# EAGLE library part 6N138 (library Master)
Optoisolator, darlington pair output
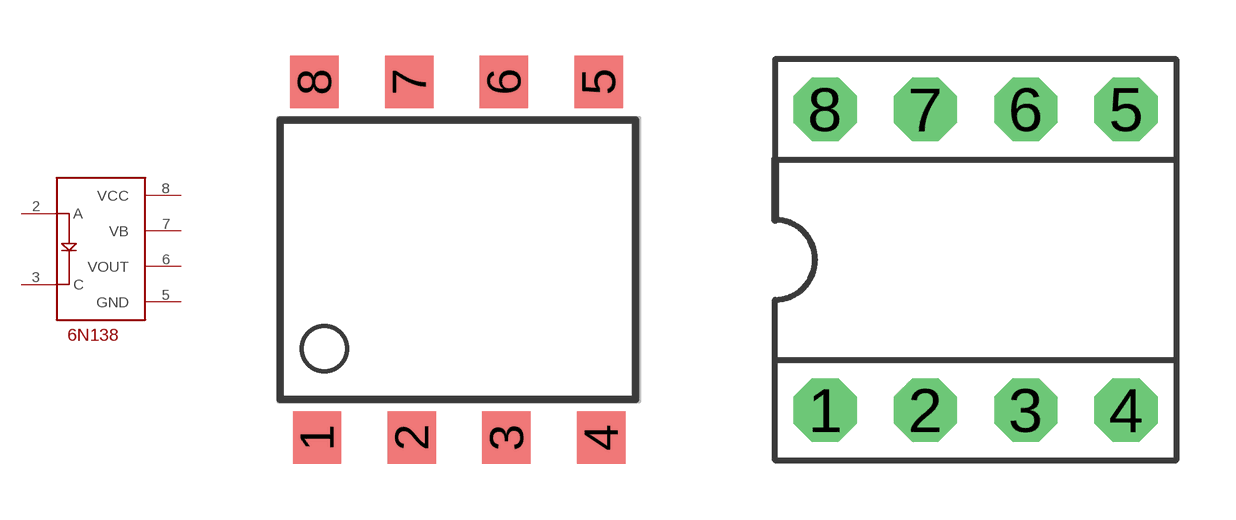
[diagram p19: symbol with the pads of 8-SMD; footprints 8-SMD, DIL08]

Designator prefix -

## 6N138SMD  [8-SMD]
2  A
3  C
5  GND
6  VOUT
7  VB
8  VCC

## 6N138DIP  [DIL08]
Pads as for 8-SMD

## Footprint 8-SMD (pad centres in mm)
smd 1.3 x 1.4: 1 -3.96,-4.96; 2 -1.42,-4.96; 3 1.12,-4.96; 4 3.66,-4.96; 5 3.59,4.58; 6 1.05,4.58; 7 -1.49,4.58; 8 -4.03,4.58

## Footprint DIL08 (pad centres in mm)
Dual In Line
drill 0.813 pad 1.6 octagon: 1 -3.81,-3.81; 2 -1.27,-3.81; 3 1.27,-3.81; 4 3.81,-3.81; 5 3.81,3.81; 6 1.27,3.81; 7 -1.27,3.81; 8 -3.81,3.81